# Altium schematic symbol library IDC_40pin.SchLib: 1 symbol
Pins are listed as number, name and electrical type; pins without a type are passive.

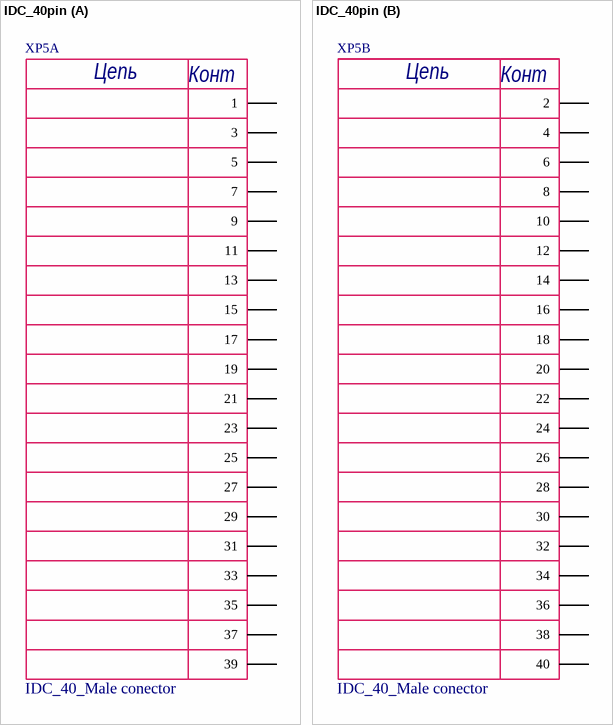
[diagram p0: symbol IDC_40pin]

## IDC_40pin
designator XP5, comment IDC_40_Male conector
IDC 40-пиновый разъём прямая вилка; Part Number: IDC_40_Male conector
footprint IDC_40_Male conector
part A pins: 1, 3, 5, 7, 9, 11, 13, 15, 17, 19, 21, 23, 25, 27, 29, 31, 33, 35, 37, 39
part B pins: 2, 4, 6, 8, 10, 12, 14, 16, 18, 20, 22, 24, 26, 28, 30, 32, 34, 36, 38, 40
part A text: Цепь; Конт
part B text: Цепь; Конт